# Altium footprint library Copy of Plant_Monitor.PcbLib: 6 footprints
Each footprint in its own frame and in the unit in brackets; x right, y up, seen from the top. Pads: shape width x height; smd on the part's side, far side on the other; paste and mask are expansions set on the pad; w line width, h text height; cw(c..) or ccw(c..) is an arc to the next point about the centre after c.
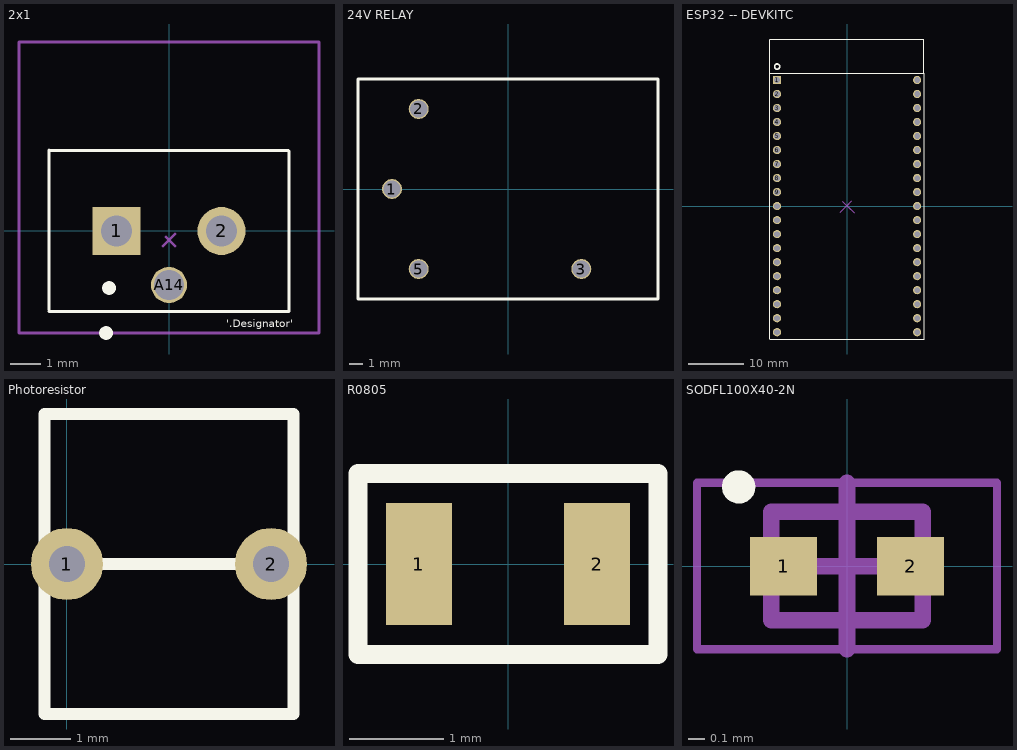
[diagram p0: the footprints below, top view; thin cyan lines are the x and y axes]

## 2x1 [mm]
pads (3):
  rect 1.6x1.6 hole 1.02: 1(-1.75,0)
  round 1.6 hole 1.02: 2(1.75,0)
  round 1.2 hole 1: A14(0,-1.8)
Top Overlay:
  circle w0.1: c0,-1.8 r0.447
  circle w0.254: c-2,-1.9 r0.1
  circle w0.254: c-2.1,-3.4 r0.1
  lines w0.1: -4,-2.68 4,-2.68 4,2.67 ; -4,-2.64 -4,2.7 ; -3.98,2.68 0,2.68 3.98,2.68
  text "'.Designator'" at 1.91,-3.207 h0.25
Top Component Center:
  lines w0.1: -0.2,-0.5 0.2,-0.1 ; -0.1,-0.2 0.2,-0.5
Top Courtyard:
  lines w0.1: -5,-3.4 -5,6.3 -4.5,6.3 5,6.3 5,-3.4 -5,-3.4
3D body "1722861102.stp": height 8.9, standoff -8.05, extent -4.5,-2.885 4.5,5.785

## 24V RELAY [mm]
height 18.5
pads (4):
  round 1.5 hole 1.3: 1(-8.7,0) 2(-6.7,6) 3(5.5,-6) 5(-6.7,-6)
Top Overlay:
  lines w0.254: -11.25,-8.25 11.25,-8.25 11.25,8.25 -11.25,8.25 -11.25,-8.25
3D body "G5LE_1A4.step": height 19, standoff -3.5, extent -11.25,-8.3 11.25,8.2

## ESP32 -- DEVKITC [mm]
pads (38):
  rect 1.5x1.5 hole 1.02: 1(-12.7,22.86)
  round 1.5 hole 1.02: 2(-12.7,20.32) 3(-12.7,17.78) 4(-12.7,15.24) 5(-12.7,12.7) 6(-12.7,10.16) 7(-12.7,7.62) 8(-12.7,5.08) 9(-12.7,2.54) 10(-12.7,0) 11(-12.7,-2.54) 12(-12.7,-5.08) 13(-12.7,-7.62) 14(-12.7,-10.16) 15(-12.7,-12.7) 16(-12.7,-15.24) 17(-12.7,-17.78) 18(-12.7,-20.32) 19(-12.7,-22.86) 20(12.7,-22.86) 21(12.7,-20.32) 22(12.7,-17.78) 23(12.7,-15.24) 24(12.7,-12.7) 25(12.7,-10.16) 26(12.7,-7.62) 27(12.7,-5.08) 28(12.7,-2.54) 29(12.7,0) 30(12.7,2.54) 31(12.7,5.08) 32(12.7,7.62) 33(12.7,10.16) 34(12.7,12.7) 35(12.7,15.24) 36(12.7,17.78) 37(12.7,20.32) 38(12.7,22.86)
Top Overlay:
  circle w0.254: c-12.675,25.298 r0.472
  lines w0.1: -13.975,24.1 -13.975,30.195 -13.894,30.277 -11.481,30.277 -3.48,30.277 ; 4.394,30.277 10.617,30.277 11.506,30.277 13.905,30.277 13.925,30.297 13.925,24.1
  lines w0.2: -13.975,-24.1 -13.975,24.1 13.925,24.1 ; -13.95,-24.1 13.95,-24.1 13.95,24.1 ; -3.48,30.277 0.483,30.277 4.394,30.277
Top Component Center:
  lines w0.1: -1.194,-1.118 0.889,0.965 0.025,0.102 0.025,0 ; -0.889,0.914 1.27,-1.245 0.025,0 ; 0,0 0.025,0
3D body "ESP32-DEVKITC-32D--3DModel-STEP-56544.STEP": height 4.16, standoff -8.53, extent -14.122,-24.876 13.818,30.224

## Photoresistor [mm]
pads (2):
  round 1.2 hole 0.6: 1(0,0) 2(3.4,0)
Top Overlay:
  lines w0.2: -0.375,0 2.2,0 ; 1.2,0 3.775,0 ; 3.775,0 3.775,2.5 -0.375,2.5 -0.375,-2.5 3.775,-2.5 3.775,0
3D body: height 1.27, standoff 0, extent -1.016,-2.41 4.064,2.664

## R0805 [mm]
pads (2):
  rect 0.7x1.3 smd: 1(-0.95,0) 2(0.95,0)
Top Overlay:
  lines w0.2: -1.6,-0.965 1.6,-0.965 1.6,0.965 0.368,0.965 -0.571,0.965 -1.6,0.965 -1.6,-0.965

## SODFL100X40-2N [mm] "SODFL, 2-Leads, Body 0.60x1.00mm, IPC Medium Density"
height 0.4
pads (2):
  rect 0.4x0.35 smd: 1(-0.381,0) 2(0.381,0)
Top Overlay:
  circle w0.1: c-0.65,0.475 r0.05
Mechanical 13:
  lines w0.1: -0.455,-0.325 -0.455,0.325 0.455,0.325 0.455,-0.325 -0.455,-0.325
Mechanical 15:
  lines w0.05: -0.9,-0.5 -0.9,0.5 0.9,0.5 0.9,-0.5 -0.9,-0.5
  lines w0.1: -0.5,0 0.5,0 ; 0,-0.5 0,0.5
3D body "SODFL100X40-2N.step": height 0.4, standoff 0, extent -0.5,-0.325 0.5,0.325